# Altium integrated library Altium_WE-PDA (rev23a).IntLib: 84 symbols (part 2 of 2)
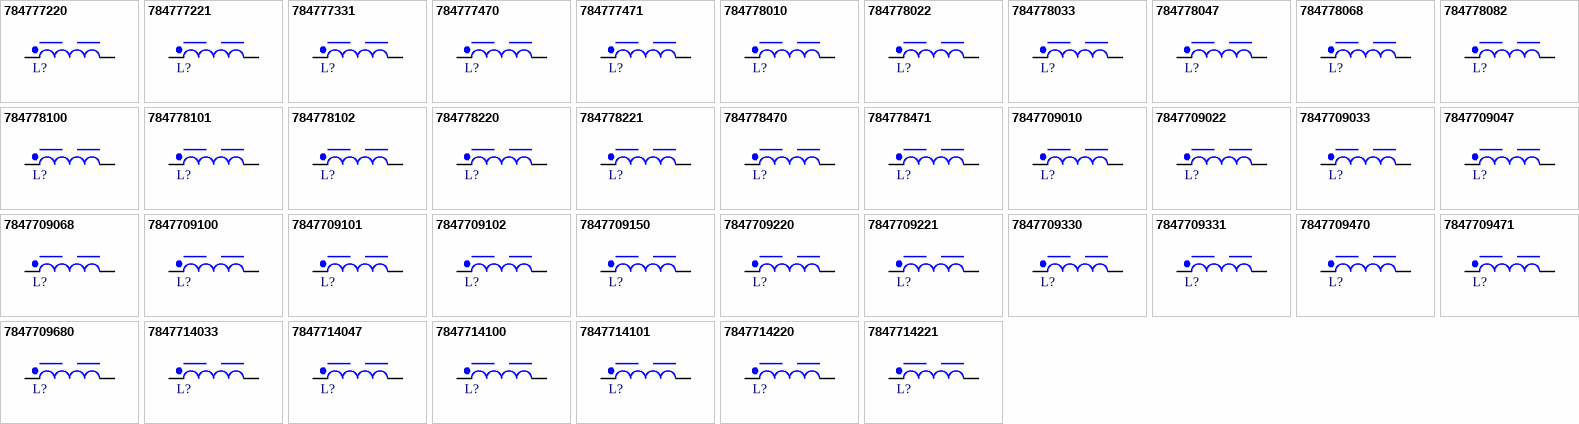
[diagram p3: symbols 784777220 to 7847714221]

## 784778221
designator L?, comment 220uH  (value not drawn)
WE-PDA SMT Shielded Power Inductor, size 7332, 220uH, 0.48A, 1620mOhm; Manufacturer Part Number: 784778221; Manufacturer: Wurth Elektronik; Case/Size Code: 7332; DC Resistance: 1350mOhm; Saturation Current: 0.5A; Self Resonant Frequency: 6.1MHz; Category: Power Inductors; Match Code: WE-PDA; ComponentLink1Description: Website Link; ComponentLink1URL: https://www.we-online.com/redexpert/article/784778221?ad; ComponentLink2Description: Datasheet Link; ComponentLink2URL: https://www.we-online.com/redexpert/spec/784778221?ad; Mount: Surface Mount; Operating Temperature Max: 125°C; Operating Temperature Min: -40°C; Packaging: Tape and Reel; Length: 7.3mm; Width: 7.3mm; Height: 3.2mm; Automotive: Yes; DC Resistance Max: 1620mOhm; Inductance: 220uH; Rated Current: 0.48A
footprint WE-PDA_7332
simulation model 7332_784778221_220u
pins: 1, 2

## 784778470
designator L?, comment 47uH  (value not drawn)
WE-PDA SMT Shielded Power Inductor, size 7332, 47uH, 1.1A, 348mOhm; Manufacturer Part Number: 784778470; Manufacturer: Wurth Elektronik; Case/Size Code: 7332; DC Resistance: 290mOhm; Saturation Current: 1.05A; Self Resonant Frequency: 13.5MHz; Category: Power Inductors; Match Code: WE-PDA; ComponentLink1Description: Website Link; ComponentLink1URL: https://www.we-online.com/redexpert/article/784778470?ad; ComponentLink2Description: Datasheet Link; ComponentLink2URL: https://www.we-online.com/redexpert/spec/784778470?ad; Mount: Surface Mount; Operating Temperature Max: 125°C; Operating Temperature Min: -40°C; Packaging: Tape and Reel; Length: 7.3mm; Width: 7.3mm; Height: 3.2mm; Automotive: Yes; DC Resistance Max: 348mOhm; Inductance: 47uH; Rated Current: 1.1A
footprint WE-PDA_7332
simulation model 7332_784778470_47u
pins: 1, 2

## 784778471
designator L?, comment 470uH  (value not drawn)
WE-PDA SMT Shielded Power Inductor, size 7332, 470uH, 0.3A, 3300mOhm; Manufacturer Part Number: 784778471; Manufacturer: Wurth Elektronik; Case/Size Code: 7332; DC Resistance: 2740mOhm; Saturation Current: 0.35A; Self Resonant Frequency: 3.9MHz; Category: Power Inductors; Match Code: WE-PDA; ComponentLink1Description: Website Link; ComponentLink1URL: https://www.we-online.com/redexpert/article/784778471?ad; ComponentLink2Description: Datasheet Link; ComponentLink2URL: https://www.we-online.com/redexpert/spec/784778471?ad; Mount: Surface Mount; Operating Temperature Max: 125°C; Operating Temperature Min: -40°C; Packaging: Tape and Reel; Length: 7.3mm; Width: 7.3mm; Height: 3.2mm; Automotive: Yes; DC Resistance Max: 3300mOhm; Inductance: 470uH; Rated Current: 0.3A
footprint WE-PDA_7332
simulation model 7332_784778471_470u
pins: 1, 2

## 7847709010
designator L?, comment 1uH  (value not drawn)
WE-PDA SMT Shielded Power Inductor, size 1210, 1uH, 9.2A, 9.5mOhm; Manufacturer Part Number: 7847709010; Manufacturer: Wurth Elektronik; Case/Size Code: 1210; DC Resistance: 8mOhm; Saturation Current: 23A; Self Resonant Frequency: 120MHz; Category: Power Inductors; Match Code: WE-PDA; ComponentLink1Description: Website Link; ComponentLink1URL: https://www.we-online.com/redexpert/article/7847709010?ad; ComponentLink2Description: Datasheet Link; ComponentLink2URL: https://www.we-online.com/redexpert/spec/7847709010?ad; Mount: Surface Mount; Operating Temperature Max: 125°C; Operating Temperature Min: -40°C; Packaging: Tape and Reel; Length: 12mm; Width: 12mm; Height: 10mm; Automotive: Yes; DC Resistance Max: 9.5mOhm; Inductance: 1uH; Rated Current: 9.2A
footprint WE-PDA_1210
simulation model 1210_7847709010_1u
pins: 1, 2

## 7847709022
designator L?, comment 2.2uH  (value not drawn)
WE-PDA SMT Shielded Power Inductor, size 1210, 2.2uH, 7.5A, 14.5mOhm; Manufacturer Part Number: 7847709022; Manufacturer: Wurth Elektronik; Case/Size Code: 1210; DC Resistance: 12mOhm; Saturation Current: 16A; Self Resonant Frequency: 91.9MHz; Category: Power Inductors; Match Code: WE-PDA; ComponentLink1Description: Website Link; ComponentLink1URL: https://www.we-online.com/redexpert/article/7847709022?ad; ComponentLink2Description: Datasheet Link; ComponentLink2URL: https://www.we-online.com/redexpert/spec/7847709022?ad; Mount: Surface Mount; Operating Temperature Max: 125°C; Operating Temperature Min: -40°C; Packaging: Tape and Reel; Length: 12mm; Width: 12mm; Height: 10mm; Automotive: Yes; DC Resistance Max: 14.5mOhm; Inductance: 2.2uH; Rated Current: 7.5A
footprint WE-PDA_1210
simulation model 1210_7847709022_2.2u
pins: 1, 2

## 7847709033
designator L?, comment 3.3uH  (value not drawn)
WE-PDA SMT Shielded Power Inductor, size 1210, 3.3uH, 7A, 17mOhm; Manufacturer Part Number: 7847709033; Manufacturer: Wurth Elektronik; Case/Size Code: 1210; DC Resistance: 14mOhm; Saturation Current: 13.5A; Self Resonant Frequency: 72MHz; Category: Power Inductors; Match Code: WE-PDA; ComponentLink1Description: Website Link; ComponentLink1URL: https://www.we-online.com/redexpert/article/7847709033?ad; ComponentLink2Description: Datasheet Link; ComponentLink2URL: https://www.we-online.com/redexpert/spec/7847709033?ad; Mount: Surface Mount; Operating Temperature Max: 125°C; Operating Temperature Min: -40°C; Packaging: Tape and Reel; Length: 12mm; Width: 12mm; Height: 10mm; Automotive: Yes; DC Resistance Max: 17mOhm; Inductance: 3.3uH; Rated Current: 7A
footprint WE-PDA_1210
simulation model 1210_7847709033_3.3u
pins: 1, 2

## 7847709047
designator L?, comment 4.7uH  (value not drawn)
WE-PDA SMT Shielded Power Inductor, size 1210, 4.7uH, 6A, 19mOhm; Manufacturer Part Number: 7847709047; Manufacturer: Wurth Elektronik; Case/Size Code: 1210; DC Resistance: 16mOhm; Saturation Current: 11A; Self Resonant Frequency: 61MHz; Category: Power Inductors; Match Code: WE-PDA; ComponentLink1Description: Website Link; ComponentLink1URL: https://www.we-online.com/redexpert/article/7847709047?ad; ComponentLink2Description: Datasheet Link; ComponentLink2URL: https://www.we-online.com/redexpert/spec/7847709047?ad; Mount: Surface Mount; Operating Temperature Max: 125°C; Operating Temperature Min: -40°C; Packaging: Tape and Reel; Length: 12mm; Width: 12mm; Height: 10mm; Automotive: Yes; DC Resistance Max: 19mOhm; Inductance: 4.7uH; Rated Current: 6A
footprint WE-PDA_1210
simulation model 1210_7847709047_4.7u
pins: 1, 2

## 7847709068
designator L?, comment 6.8uH  (value not drawn)
WE-PDA SMT Shielded Power Inductor, size 1210, 6.8uH, 5.5A, 24mOhm; Manufacturer Part Number: 7847709068; Manufacturer: Wurth Elektronik; Case/Size Code: 1210; DC Resistance: 20mOhm; Saturation Current: 9A; Self Resonant Frequency: 38MHz; Category: Power Inductors; Match Code: WE-PDA; ComponentLink1Description: Website Link; ComponentLink1URL: https://www.we-online.com/redexpert/article/7847709068?ad; ComponentLink2Description: Datasheet Link; ComponentLink2URL: https://www.we-online.com/redexpert/spec/7847709068?ad; Mount: Surface Mount; Operating Temperature Max: 125°C; Operating Temperature Min: -40°C; Packaging: Tape and Reel; Length: 12mm; Width: 12mm; Height: 10mm; Automotive: Yes; DC Resistance Max: 24mOhm; Inductance: 6.8uH; Rated Current: 5.5A
footprint WE-PDA_1210
simulation model 1210_7847709068_6.8u
pins: 1, 2

## 7847709100
designator L?, comment 10uH  (value not drawn)
WE-PDA SMT Shielded Power Inductor, size 1210, 10uH, 5A, 30mOhm; Manufacturer Part Number: 7847709100; Manufacturer: Wurth Elektronik; Case/Size Code: 1210; DC Resistance: 25mOhm; Saturation Current: 7.5A; Self Resonant Frequency: 22MHz; Category: Power Inductors; Match Code: WE-PDA; ComponentLink1Description: Website Link; ComponentLink1URL: https://www.we-online.com/redexpert/article/7847709100?ad; ComponentLink2Description: Datasheet Link; ComponentLink2URL: https://www.we-online.com/redexpert/spec/7847709100?ad; Mount: Surface Mount; Operating Temperature Max: 125°C; Operating Temperature Min: -40°C; Packaging: Tape and Reel; Length: 12mm; Width: 12mm; Height: 10mm; Automotive: Yes; DC Resistance Max: 30mOhm; Inductance: 10uH; Rated Current: 5A
footprint WE-PDA_1210
simulation model 1210_7847709100_10u
pins: 1, 2

## 7847709101
designator L?, comment 100uH  (value not drawn)
WE-PDA SMT Shielded Power Inductor, size 1210, 100uH, 2.2A, 120mOhm; Manufacturer Part Number: 7847709101; Manufacturer: Wurth Elektronik; Case/Size Code: 1210; DC Resistance: 100mOhm; Saturation Current: 2.4A; Self Resonant Frequency: 4.7MHz; Category: Power Inductors; Match Code: WE-PDA; ComponentLink1Description: Website Link; ComponentLink1URL: https://www.we-online.com/redexpert/article/7847709101?ad; ComponentLink2Description: Datasheet Link; ComponentLink2URL: https://www.we-online.com/redexpert/spec/7847709101?ad; Mount: Surface Mount; Operating Temperature Max: 125°C; Operating Temperature Min: -40°C; Packaging: Tape and Reel; Length: 12mm; Width: 12mm; Height: 10mm; Automotive: Yes; DC Resistance Max: 120mOhm; Inductance: 100uH; Rated Current: 2.2A
footprint WE-PDA_1210
simulation model 1210_7847709101_100u
pins: 1, 2

## 7847709102
designator L?, comment 1000uH  (value not drawn)
WE-PDA SMT Shielded Power Inductor, size 1210, 1000uH, 0.63A, 1060mOhm; Manufacturer Part Number: 7847709102; Manufacturer: Wurth Elektronik; Case/Size Code: 1210; DC Resistance: 885mOhm; Saturation Current: 0.7A; Self Resonant Frequency: 1.4MHz; Category: Power Inductors; Match Code: WE-PDA; ComponentLink1Description: Website Link; ComponentLink1URL: https://www.we-online.com/redexpert/article/7847709102?ad; ComponentLink2Description: Datasheet Link; ComponentLink2URL: https://www.we-online.com/redexpert/spec/7847709102?ad; Mount: Surface Mount; Operating Temperature Max: 125°C; Operating Temperature Min: -40°C; Packaging: Tape and Reel; Length: 12mm; Width: 12mm; Height: 10mm; Automotive: Yes; DC Resistance Max: 1060mOhm; Inductance: 1000uH; Rated Current: 0.63A
footprint WE-PDA_1210
simulation model 1210_7847709102_1000u
pins: 1, 2

## 7847709150
designator L?, comment 15uH  (value not drawn)
WE-PDA SMT Shielded Power Inductor, size 1210, 15uH, 4.6A, 36mOhm; Manufacturer Part Number: 7847709150; Manufacturer: Wurth Elektronik; Case/Size Code: 1210; DC Resistance: 30mOhm; Saturation Current: 5.7A; Self Resonant Frequency: 22MHz; Category: Power Inductors; Match Code: WE-PDA; ComponentLink1Description: Website Link; ComponentLink1URL: https://www.we-online.com/redexpert/article/7847709150?ad; ComponentLink2Description: Datasheet Link; ComponentLink2URL: https://www.we-online.com/redexpert/spec/7847709150?ad; Mount: Surface Mount; Operating Temperature Max: 125°C; Operating Temperature Min: -40°C; Packaging: Tape and Reel; Length: 12mm; Width: 12mm; Height: 10mm; Automotive: Yes; DC Resistance Max: 36mOhm; Inductance: 15uH; Rated Current: 4.6A
footprint WE-PDA_1210
simulation model 1210_7847709150_15u
pins: 1, 2

## 7847709220
designator L?, comment 22uH  (value not drawn)
WE-PDA SMT Shielded Power Inductor, size 1210, 22uH, 4.3A, 44mOhm; Manufacturer Part Number: 7847709220; Manufacturer: Wurth Elektronik; Case/Size Code: 1210; DC Resistance: 37mOhm; Saturation Current: 5A; Self Resonant Frequency: 11MHz; Category: Power Inductors; Match Code: WE-PDA; ComponentLink1Description: Website Link; ComponentLink1URL: https://www.we-online.com/redexpert/article/7847709220?ad; ComponentLink2Description: Datasheet Link; ComponentLink2URL: https://www.we-online.com/redexpert/spec/7847709220?ad; Mount: Surface Mount; Operating Temperature Max: 125°C; Operating Temperature Min: -40°C; Packaging: Tape and Reel; Length: 12mm; Width: 12mm; Height: 10mm; Automotive: Yes; DC Resistance Max: 44mOhm; Inductance: 22uH; Rated Current: 4.3A
footprint WE-PDA_1210
simulation model 1210_7847709220_22u
pins: 1, 2

## 7847709221
designator L?, comment 220uH  (value not drawn)
WE-PDA SMT Shielded Power Inductor, size 1210, 220uH, 1.45A, 245mOhm; Manufacturer Part Number: 7847709221; Manufacturer: Wurth Elektronik; Case/Size Code: 1210; DC Resistance: 205mOhm; Saturation Current: 1.6A; Self Resonant Frequency: 2.9MHz; Category: Power Inductors; Match Code: WE-PDA; ComponentLink1Description: Website Link; ComponentLink1URL: https://www.we-online.com/redexpert/article/7847709221?ad; ComponentLink2Description: Datasheet Link; ComponentLink2URL: https://www.we-online.com/redexpert/spec/7847709221?ad; Mount: Surface Mount; Operating Temperature Max: 125°C; Operating Temperature Min: -40°C; Packaging: Tape and Reel; Length: 12mm; Width: 12mm; Height: 10mm; Automotive: Yes; DC Resistance Max: 245mOhm; Inductance: 220uH; Rated Current: 1.45A
footprint WE-PDA_1210
simulation model 1210_7847709221_220u
pins: 1, 2

## 7847709330
designator L?, comment 33uH  (value not drawn)
WE-PDA SMT Shielded Power Inductor, size 1210, 33uH, 3.5A, 53mOhm; Manufacturer Part Number: 7847709330; Manufacturer: Wurth Elektronik; Case/Size Code: 1210; DC Resistance: 44.3mOhm; Saturation Current: 3.9A; Self Resonant Frequency: 9MHz; Category: Power Inductors; Match Code: WE-PDA; ComponentLink1Description: Website Link; ComponentLink1URL: https://www.we-online.com/redexpert/article/7847709330?ad; ComponentLink2Description: Datasheet Link; ComponentLink2URL: https://www.we-online.com/redexpert/spec/7847709330?ad; Mount: Surface Mount; Operating Temperature Max: 125°C; Operating Temperature Min: -40°C; Packaging: Tape and Reel; Length: 12mm; Width: 12mm; Height: 10mm; Automotive: Yes; DC Resistance Max: 53mOhm; Inductance: 33uH; Rated Current: 3.5A
footprint WE-PDA_1210
simulation model 1210_7847709330_33u
pins: 1, 2

## 7847709331
designator L?, comment 330uH  (value not drawn)
WE-PDA SMT Shielded Power Inductor, size 1210, 330uH, 1.2A, 408mOhm; Manufacturer Part Number: 7847709331; Manufacturer: Wurth Elektronik; Case/Size Code: 1210; DC Resistance: 340mOhm; Saturation Current: 1.3A; Self Resonant Frequency: 2.1MHz; Category: Power Inductors; Match Code: WE-PDA; ComponentLink1Description: Website Link; ComponentLink1URL: https://www.we-online.com/redexpert/article/7847709331?ad; ComponentLink2Description: Datasheet Link; ComponentLink2URL: https://www.we-online.com/redexpert/spec/7847709331?ad; Mount: Surface Mount; Operating Temperature Max: 125°C; Operating Temperature Min: -40°C; Packaging: Tape and Reel; Length: 12mm; Width: 12mm; Height: 10mm; Automotive: Yes; DC Resistance Max: 408mOhm; Inductance: 330uH; Rated Current: 1.2A
footprint WE-PDA_1210
simulation model 1210_7847709331_330u
pins: 1, 2

## 7847709470
designator L?, comment 47uH  (value not drawn)
WE-PDA SMT Shielded Power Inductor, size 1210, 47uH, 3.2A, 67mOhm; Manufacturer Part Number: 7847709470; Manufacturer: Wurth Elektronik; Case/Size Code: 1210; DC Resistance: 56mOhm; Saturation Current: 3.5A; Self Resonant Frequency: 6.3MHz; Category: Power Inductors; Match Code: WE-PDA; ComponentLink1Description: Website Link; ComponentLink1URL: https://www.we-online.com/redexpert/article/7847709470?ad; ComponentLink2Description: Datasheet Link; ComponentLink2URL: https://www.we-online.com/redexpert/spec/7847709470?ad; Mount: Surface Mount; Operating Temperature Max: 125°C; Operating Temperature Min: -40°C; Packaging: Tape and Reel; Length: 12mm; Width: 12mm; Height: 10mm; Automotive: Yes; DC Resistance Max: 67mOhm; Inductance: 47uH; Rated Current: 3.2A
footprint WE-PDA_1210
simulation model 1210_7847709470_47u
pins: 1, 2

## 7847709471
designator L?, comment 470uH  (value not drawn)
WE-PDA SMT Shielded Power Inductor, size 1210, 470uH, 0.9A, 490mOhm; Manufacturer Part Number: 7847709471; Manufacturer: Wurth Elektronik; Case/Size Code: 1210; DC Resistance: 410mOhm; Saturation Current: 1.1A; Self Resonant Frequency: 1.9MHz; Category: Power Inductors; Match Code: WE-PDA; ComponentLink1Description: Website Link; ComponentLink1URL: https://www.we-online.com/redexpert/article/7847709471?ad; ComponentLink2Description: Datasheet Link; ComponentLink2URL: https://www.we-online.com/redexpert/spec/7847709471?ad; Mount: Surface Mount; Operating Temperature Max: 125°C; Operating Temperature Min: -40°C; Packaging: Tape and Reel; Length: 12mm; Width: 12mm; Height: 10mm; Automotive: Yes; DC Resistance Max: 490mOhm; Inductance: 470uH; Rated Current: 0.9A
footprint WE-PDA_1210
simulation model 1210_7847709471_470u
pins: 1, 2

## 7847709680
designator L?, comment 68uH  (value not drawn)
WE-PDA SMT Shielded Power Inductor, size 1210, 68uH, 2.6A, 78.5mOhm; Manufacturer Part Number: 7847709680; Manufacturer: Wurth Elektronik; Case/Size Code: 1210; DC Resistance: 65.5mOhm; Saturation Current: 2.8A; Self Resonant Frequency: 5.8MHz; Category: Power Inductors; Match Code: WE-PDA; ComponentLink1Description: Website Link; ComponentLink1URL: https://www.we-online.com/redexpert/article/7847709680?ad; ComponentLink2Description: Datasheet Link; ComponentLink2URL: https://www.we-online.com/redexpert/spec/7847709680?ad; Mount: Surface Mount; Operating Temperature Max: 125°C; Operating Temperature Min: -40°C; Packaging: Tape and Reel; Length: 12mm; Width: 12mm; Height: 10mm; Automotive: Yes; DC Resistance Max: 78.5mOhm; Inductance: 68uH; Rated Current: 2.6A
footprint WE-PDA_1210
simulation model 1210_7847709680_68u
pins: 1, 2

## 7847714033
designator L?, comment 3.3uH  (value not drawn)
WE-PDA SMT Shielded Power Inductor, size 1050, 3.3uH, 7.11A, 15mOhm; Manufacturer Part Number: 7847714033; Manufacturer: Wurth Elektronik; Case/Size Code: 1050; DC Resistance: 12mOhm; Saturation Current: 9.4A; Self Resonant Frequency: 29MHz; Category: Power Inductors; Match Code: WE-PDA; ComponentLink1Description: Website Link; ComponentLink1URL: https://www.we-online.com/redexpert/article/7847714033?ad; ComponentLink2Description: Datasheet Link; ComponentLink2URL: https://www.we-online.com/redexpert/spec/7847714033?ad; Mount: Surface Mount; Operating Temperature Max: 125°C; Operating Temperature Min: -40°C; Packaging: Tape and Reel; Length: 10mm; Width: 10mm; Height: 5mm; Automotive: Yes; DC Resistance Max: 15mOhm; Inductance: 3.3uH; Rated Current: 7.11A
footprint WE-PDA_1050
simulation model 1050_7847714033_3.3u
pins: 1, 2

## 7847714047
designator L?, comment 4.7uH  (value not drawn)
WE-PDA SMT Shielded Power Inductor, size 1050, 4.7uH, 6.81A, 17mOhm; Manufacturer Part Number: 7847714047; Manufacturer: Wurth Elektronik; Case/Size Code: 1050; DC Resistance: 14mOhm; Saturation Current: 8.2A; Self Resonant Frequency: 25MHz; Category: Power Inductors; Match Code: WE-PDA; ComponentLink1Description: Website Link; ComponentLink1URL: https://www.we-online.com/redexpert/article/7847714047?ad; ComponentLink2Description: Datasheet Link; ComponentLink2URL: https://www.we-online.com/redexpert/spec/7847714047?ad; Mount: Surface Mount; Operating Temperature Max: 125°C; Operating Temperature Min: -40°C; Packaging: Tape and Reel; Length: 10mm; Width: 10mm; Height: 5mm; Automotive: Yes; DC Resistance Max: 17mOhm; Inductance: 4.7uH; Rated Current: 6.81A
footprint WE-PDA_1050
simulation model 1050_7847714047_4.7u
pins: 1, 2

## 7847714100
designator L?, comment 10uH  (value not drawn)
WE-PDA SMT Shielded Power Inductor, size 1050, 10uH, 5.12A, 32mOhm; Manufacturer Part Number: 7847714100; Manufacturer: Wurth Elektronik; Case/Size Code: 1050; DC Resistance: 26mOhm; Saturation Current: 5.6A; Self Resonant Frequency: 16.75MHz; Category: Power Inductors; Match Code: WE-PDA; ComponentLink1Description: Website Link; ComponentLink1URL: https://www.we-online.com/redexpert/article/7847714100?ad; ComponentLink2Description: Datasheet Link; ComponentLink2URL: https://www.we-online.com/redexpert/spec/7847714100?ad; Mount: Surface Mount; Operating Temperature Max: 125°C; Operating Temperature Min: -40°C; Packaging: Tape and Reel; Length: 10mm; Width: 10mm; Height: 5mm; Automotive: Yes; DC Resistance Max: 32mOhm; Inductance: 10uH; Rated Current: 5.12A
footprint WE-PDA_1050
simulation model 1050_7847714100_10u
pins: 1, 2

## 7847714101
designator L?, comment 100uH  (value not drawn)
WE-PDA SMT Shielded Power Inductor, size 1050, 100uH, 1.43A, 294mOhm; Manufacturer Part Number: 7847714101; Manufacturer: Wurth Elektronik; Case/Size Code: 1050; DC Resistance: 245mOhm; Saturation Current: 1.6A; Self Resonant Frequency: 4.4MHz; Category: Power Inductors; Match Code: WE-PDA; ComponentLink1Description: Website Link; ComponentLink1URL: https://www.we-online.com/redexpert/article/7847714101?ad; ComponentLink2Description: Datasheet Link; ComponentLink2URL: https://www.we-online.com/redexpert/spec/7847714101?ad; Mount: Surface Mount; Operating Temperature Max: 125°C; Operating Temperature Min: -40°C; Packaging: Tape and Reel; Length: 10mm; Width: 10mm; Height: 5mm; Automotive: Yes; DC Resistance Max: 294mOhm; Inductance: 100uH; Rated Current: 1.43A
footprint WE-PDA_1050
simulation model 1050_7847714101_100u
pins: 1, 2

## 7847714220
designator L?, comment 22uH  (value not drawn)
WE-PDA SMT Shielded Power Inductor, size 1050, 22uH, 3.13A, 75mOhm; Manufacturer Part Number: 7847714220; Manufacturer: Wurth Elektronik; Case/Size Code: 1050; DC Resistance: 63mOhm; Saturation Current: 3.7A; Self Resonant Frequency: 9.6MHz; Category: Power Inductors; Match Code: WE-PDA; ComponentLink1Description: Website Link; ComponentLink1URL: https://www.we-online.com/redexpert/article/7847714220?ad; ComponentLink2Description: Datasheet Link; ComponentLink2URL: https://www.we-online.com/redexpert/spec/7847714220?ad; Mount: Surface Mount; Operating Temperature Max: 125°C; Operating Temperature Min: -40°C; Packaging: Tape and Reel; Length: 10mm; Width: 10mm; Height: 5mm; Automotive: Yes; DC Resistance Max: 75mOhm; Inductance: 22uH; Rated Current: 3.13A
footprint WE-PDA_1050
simulation model 1050_7847714220_22u
pins: 1, 2

## 7847714221
designator L?, comment 220uH  (value not drawn)
WE-PDA SMT Shielded Power Inductor, size 1050, 220uH, 1.05A, 708mOhm; Manufacturer Part Number: 7847714221; Manufacturer: Wurth Elektronik; Case/Size Code: 1050; DC Resistance: 590mOhm; Saturation Current: 1.2A; Self Resonant Frequency: 2.9MHz; Category: Power Inductors; Match Code: WE-PDA; ComponentLink1Description: Website Link; ComponentLink1URL: https://www.we-online.com/redexpert/article/7847714221?ad; ComponentLink2Description: Datasheet Link; ComponentLink2URL: https://www.we-online.com/redexpert/spec/7847714221?ad; Mount: Surface Mount; Operating Temperature Max: 125°C; Operating Temperature Min: -40°C; Packaging: Tape and Reel; Length: 10mm; Width: 10mm; Height: 5mm; Automotive: Yes; DC Resistance Max: 708mOhm; Inductance: 220uH; Rated Current: 1.05A
footprint WE-PDA_1050
simulation model 1050_7847714221_220u
pins: 1, 2

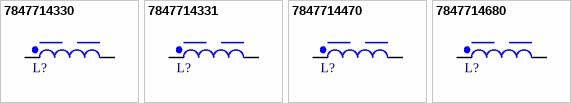
[diagram p2: symbols 7847714330 to 7847714680]

## 7847714330
designator L?, comment 33uH  (value not drawn)
WE-PDA SMT Shielded Power Inductor, size 1050, 33uH, 2.92A, 95mOhm; Manufacturer Part Number: 7847714330; Manufacturer: Wurth Elektronik; Case/Size Code: 1050; DC Resistance: 79mOhm; Saturation Current: 3A; Self Resonant Frequency: 8.4MHz; Category: Power Inductors; Match Code: WE-PDA; ComponentLink1Description: Website Link; ComponentLink1URL: https://www.we-online.com/redexpert/article/7847714330?ad; ComponentLink2Description: Datasheet Link; ComponentLink2URL: https://www.we-online.com/redexpert/spec/7847714330?ad; Mount: Surface Mount; Operating Temperature Max: 125°C; Operating Temperature Min: -40°C; Packaging: Tape and Reel; Length: 10mm; Width: 10mm; Height: 5mm; Automotive: Yes; DC Resistance Max: 95mOhm; Inductance: 33uH; Rated Current: 2.92A
footprint WE-PDA_1050
simulation model 1050_7847714330_33u
pins: 1, 2

## 7847714331
designator L?, comment 330uH  (value not drawn)
WE-PDA SMT Shielded Power Inductor, size 1050, 330uH, 0.9A, 900mOhm; Manufacturer Part Number: 7847714331; Manufacturer: Wurth Elektronik; Case/Size Code: 1050; DC Resistance: 750mOhm; Saturation Current: 1A; Self Resonant Frequency: 2.4MHz; Category: Power Inductors; Match Code: WE-PDA; ComponentLink1Description: Website Link; ComponentLink1URL: https://www.we-online.com/redexpert/article/7847714331?ad; ComponentLink2Description: Datasheet Link; ComponentLink2URL: https://www.we-online.com/redexpert/spec/7847714331?ad; Mount: Surface Mount; Operating Temperature Max: 125°C; Operating Temperature Min: -40°C; Packaging: Tape and Reel; Length: 10mm; Width: 10mm; Height: 5mm; Automotive: Yes; DC Resistance Max: 900mOhm; Inductance: 330uH; Rated Current: 0.9A
footprint WE-PDA_1050
simulation model 1050_7847714331_330u
pins: 1, 2

## 7847714470
designator L?, comment 47uH  (value not drawn)
WE-PDA SMT Shielded Power Inductor, size 1050, 47uH, 2.26A, 148mOhm; Manufacturer Part Number: 7847714470; Manufacturer: Wurth Elektronik; Case/Size Code: 1050; DC Resistance: 123mOhm; Saturation Current: 2.45A; Self Resonant Frequency: 6.4MHz; Category: Power Inductors; Match Code: WE-PDA; ComponentLink1Description: Website Link; ComponentLink1URL: https://www.we-online.com/redexpert/article/7847714470?ad; ComponentLink2Description: Datasheet Link; ComponentLink2URL: https://www.we-online.com/redexpert/spec/7847714470?ad; Mount: Surface Mount; Operating Temperature Max: 125°C; Operating Temperature Min: -40°C; Packaging: Tape and Reel; Length: 10mm; Width: 10mm; Height: 5mm; Automotive: Yes; DC Resistance Max: 148mOhm; Inductance: 47uH; Rated Current: 2.26A
footprint WE-PDA_1050
simulation model 1050_7847714470_47u
pins: 1, 2

## 7847714680
designator L?, comment 68uH  (value not drawn)
WE-PDA SMT Shielded Power Inductor, size 1050, 68uH, 1.85A, 176.4mOhm; Manufacturer Part Number: 7847714680; Manufacturer: Wurth Elektronik; Case/Size Code: 1050; DC Resistance: 147mOhm; Saturation Current: 1.9A; Self Resonant Frequency: 5.53MHz; Category: Power Inductors; Match Code: WE-PDA; ComponentLink1Description: Website Link; ComponentLink1URL: https://www.we-online.com/redexpert/article/7847714680?ad; ComponentLink2Description: Datasheet Link; ComponentLink2URL: https://www.we-online.com/redexpert/spec/7847714680?ad; Mount: Surface Mount; Operating Temperature Max: 125°C; Operating Temperature Min: -40°C; Packaging: Tape and Reel; Length: 10mm; Width: 10mm; Height: 5mm; Automotive: Yes; DC Resistance Max: 176.4mOhm; Inductance: 68uH; Rated Current: 1.85A
footprint WE-PDA_1050
simulation model 1050_7847714680_68u
pins: 1, 2